# EAGLE library part MULTIFOOTPRINT-1 (library ClintonLib)
SO Family Multi-Device Package
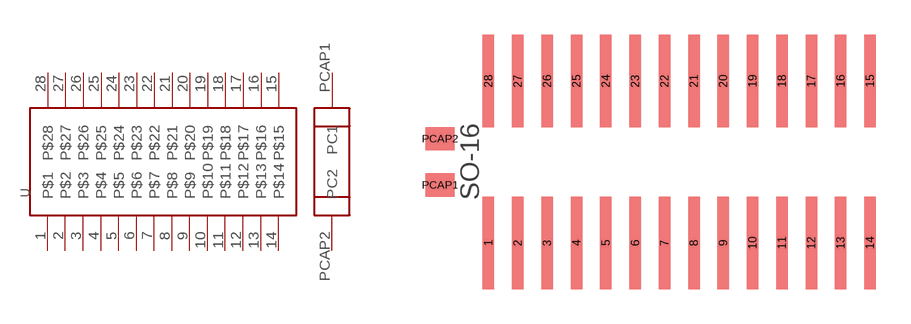
[diagram p11: symbol with the pads of MULTIFOOTPRINT-1; footprint MULTIFOOTPRINT-1]

Designator prefix -

## MULTIFOOTPRINT-1  [MULTIFOOTPRINT-1]
1  P$1
2  P$2
3  P$3
4  P$4
5  P$5
6  P$6
7  P$7
8  P$8
9  P$9
10  P$10
11  P$11
12  P$12
13  P$13
14  P$14
15  P$15
16  P$16
17  P$17
18  P$18
19  P$19
20  P$20
21  P$21
22  P$22
23  P$23
24  P$24
25  P$25
26  P$26
27  P$27
28  P$28
PCAP1  PC1
PCAP2  PC2

## Footprint MULTIFOOTPRINT-1 (pad centres in mm)
smd 0.5 x 4: 1 0,0; 2 1.27,0; 3 2.54,0; 4 3.81,0; 5 5.08,0; 6 6.35,0; 7 7.62,0; 8 8.89,0; 9 10.16,0; 10 11.43,0; 11 12.7,0; 12 13.97,0; 13 15.24,0; 14 16.51,0; 15 16.51,7; 16 15.24,7; 17 13.97,7; 18 12.7,7; 19 11.43,7; 20 10.16,7; 21 8.89,7; 22 7.62,7; 23 6.35,7; 24 5.08,7; 25 3.81,7; 26 2.54,7; 27 1.27,7; 28 0,7
smd 1.25 x 1: PCAP1 -2.1,2.5; PCAP2 -2.1,4.5